# Altium footprint library LAN8700C-AEZG-TR.PcbLib: 3 footprints
Each footprint in its own frame and in the unit in brackets; x right, y up, seen from the top. Pads: shape width x height; smd on the part's side, far side on the other; paste and mask are expansions set on the pad; w line width, h text height; cw(c..) or ccw(c..) is an arc to the next point about the centre after c.
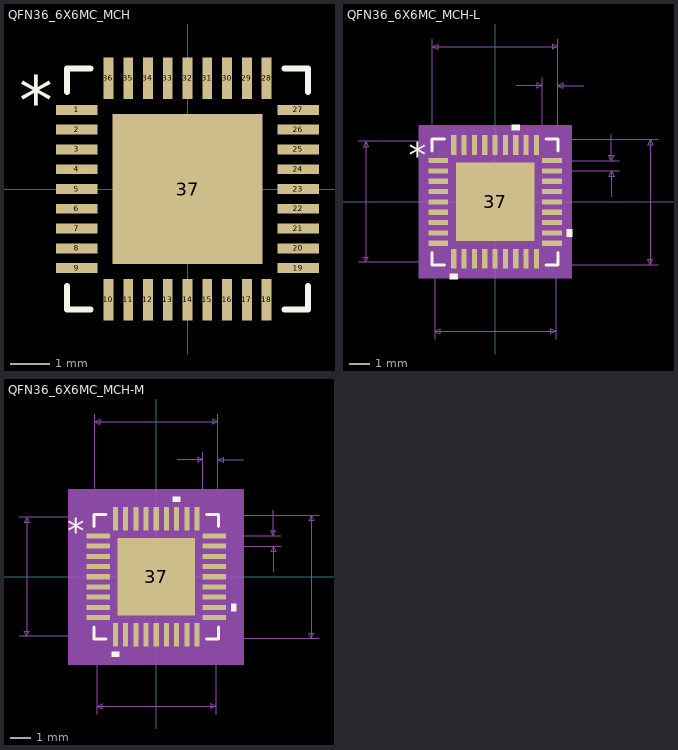
[diagram p0: the footprints below, top view; thin cyan lines are the x and y axes]

## QFN36_6X6MC_MCH [mil]
pads (37):
  rect 42x10 smd paste+0 mask+0: 1(-112,80) 2(-112,60) 3(-112,40) 4(-112,20) 5(-112,0) 6(-112,-20) 7(-112,-40) 8(-112,-60) 9(-112,-80) 19(112,-80) 20(112,-60) 21(112,-40) 22(112,-20) 23(112,0) 24(112,20) 25(112,40) 26(112,60) 27(112,80)
  rect 10x42 smd paste+0 mask+0: 10(-80,-112) 11(-60,-112) 12(-40,-112) 13(-20,-112) 14(0,-112) 15(20,-112) 16(40,-112) 17(60,-112) 18(80,-112) 28(80,112) 29(60,112) 30(40,112) 31(20,112) 32(0,112) 33(-20,112) 34(-40,112) 35(-60,112) 36(-80,112)
  rect 152x152 smd paste-75.5 mask-75.5: 37(0,0)
Top Overlay:
  lines w6: -122,-98.1 -122,-122 -98.1,-122 ; -122,98.1 -122,122 -98.1,122 ; 98.1,-122 122,-122 122,-98.1 ; 98.1,122 122,122 122,98.1
  text "*" at -170.5,65 h50
Top Paste:
  drawing of 25 lines, arcs and shapes, not listed
Top Solder:
  region: 54.37,-78.5 54.37,78.5 78.5,78.5 78.5,-78.5
  region: 38.63,-78.5 38.63,78.5 23.37,78.5 23.37,-78.5
  region: 7.63,-78.5 7.63,78.5 -7.63,78.5 -7.63,-78.5
  region: -23.37,-78.5 -23.37,78.5 -38.63,78.5 -38.63,-78.5
  region: -78.5,-78.5 -78.5,78.5 -54.37,78.5 -54.37,-78.5
  region: -78.5,-78.5 -78.5,-54.37 78.5,-54.37 78.5,-78.5
  region: -78.5,-38.63 -78.5,-23.37 78.5,-23.37 78.5,-38.63
  region: -78.5,-7.63 -78.5,7.63 78.5,7.63 78.5,-7.63
  region: -78.5,23.37 -78.5,38.63 78.5,38.63 78.5,23.37
  region: -78.5,54.37 -78.5,78.5 78.5,78.5 78.5,54.37

## QFN36_6X6MC_MCH-L [mil]
pads (37):
  rect 38x10 smd paste+0 mask+0: 1(-110,80) 2(-110,60) 3(-110,40) 4(-110,20) 5(-110,0) 6(-110,-20) 7(-110,-40) 8(-110,-60) 9(-110,-80) 19(110,-80) 20(110,-60) 21(110,-40) 22(110,-20) 23(110,0) 24(110,20) 25(110,40) 26(110,60) 27(110,80)
  rect 10x38 smd paste+0 mask+0: 10(-80,-110) 11(-60,-110) 12(-40,-110) 13(-20,-110) 14(0,-110) 15(20,-110) 16(40,-110) 17(60,-110) 18(80,-110) 28(80,110) 29(60,110) 30(40,110) 31(20,110) 32(0,110) 33(-20,110) 34(-40,110) 35(-60,110) 36(-80,110)
  rect 152x152 smd paste-75.5 mask-75.5: 37(0,0)
Top Overlay:
  region: -72.5,-139 -87.5,-139 -87.5,-149 -72.5,-149
  region: 139,-52.5 149,-52.5 149,-67.5 139,-67.5
  region: 47.5,139 32.5,139 32.5,149 47.5,149
  lines w6: -122,-98.1 -122,-122 -98.1,-122 ; -122,98.1 -122,122 -98.1,122 ; 98.1,-122 122,-122 122,-98.1 ; 98.1,122 122,122 122,98.1
  text "*" at -166.5,65 h50
Top Paste:
  drawing of 25 lines, arcs and shapes, not listed
Top Solder:
  region: -78.5,54.37 -78.5,78.5 78.5,78.5 78.5,54.37
  region: -78.5,23.37 -78.5,38.63 78.5,38.63 78.5,23.37
  region: -78.5,-7.63 -78.5,7.63 78.5,7.63 78.5,-7.63
  region: -78.5,-38.63 -78.5,-23.37 78.5,-23.37 78.5,-38.63
  region: -78.5,-78.5 -78.5,-54.37 78.5,-54.37 78.5,-78.5
  region: -78.5,-78.5 -78.5,78.5 -54.37,78.5 -54.37,-78.5
  region: -23.37,-78.5 -23.37,78.5 -38.63,78.5 -38.63,-78.5
  region: 7.63,-78.5 7.63,78.5 -7.63,78.5 -7.63,-78.5
  region: 38.63,-78.5 38.63,78.5 23.37,78.5 23.37,-78.5
  region: 54.37,-78.5 54.37,78.5 78.5,78.5 78.5,-78.5
Mechanical 5:
  region: 148,-148 -148,-148 -148,148 148,148
Mechanical 7:
  lines w1: -265,-117 117,-117 ; -265,117 117,117 117,-265 ; -121,80 -121,315 ; -117,-265 -117,117 ; 41,225 91,225 ; 80,-121 315,-121 ; 80,121 315,121 ; 91,80 91,240 ; 110,60 240,60 ; 110,80 240,80 ; 121,240 121,80 121,315 ; 171,225 121,225 ; 225,10 225,60 ; 225,130 225,80 ; -250,-117 -250,117 ; -250,-117 -255,-107 -245,-107 -250,-117 ; -250,117 -255,107 -245,107 -250,117 ; -121,300 121,300 ; -121,300 -111,305 -111,295 -121,300 ; -117,-250 117,-250 ; -117,-250 -107,-245 -107,-255 -117,-250 ; 91,225 81,230 81,220 91,225 ; 117,-250 107,-245 107,-255 117,-250 ; 121,225 131,230 131,220 121,225 ; 121,300 111,305 111,295 121,300 ; 225,60 220,50 230,50 225,60 ; 225,80 220,90 230,90 225,80 ; 300,-121 300,121 ; 300,-121 295,-111 305,-111 300,-121 ; 300,121 295,111 305,111 300,121
  text "Default Padstyle: RX10Y38D0T" at -350,-439 h50
  text "Heat Tab Padstyle: RX152Y152D0T" at -387.5,-499 h50
  text "Via Padstyle: EX40Y40D20P" at -312.5,-559 h50
  text "Alt 1 Padstyle: OX60Y90D30P" at -337.5,-619 h50
  text "Alt 2 Padstyle: OX90Y60D30P" at -337.5,-679 h50
  text "0.02in/0.508mm" at 245,57.5 h25
  text "0.03in/0.762mm" at 18.5,245 h25
  text "0.242in/6.147mm" at -93.75,320 h25
  text "0.242in/6.147mm" at 320,-12.5 h25
  text "0.234in/5.944mm" at -457.5,-12.5 h25
  text "0.234in/5.944mm" at -93.75,-295 h25
Mechanical 13:
  drawing of 153 lines, arcs and shapes, not listed
  text "*" at -103.5,65 h50
Mechanical 15:
  region: -89,-121 -121,-121 -121,-89 -133,-89 -133,89 -121,89 -121,121 -89,121 -89,133 89,133 89,121 121,121 121,89 133,89 133,-89 121,-89 121,-121 89,-121 89,-133 -89,-133
  lines w6: -133,-89 -121,-89 -121,-121 -89,-121 -89,-133 89,-133 89,-121 121,-121 121,-89 133,-89 133,89 121,89 121,121 89,121 89,133 -89,133 -89,121 -121,121 -121,89 -133,89 -133,-89
Mechanical 16:
  circle w10: c-46.5,-46.5 r15
  circle w10: c-46.5,-15.5 r15
  circle w10: c-46.5,15.5 r15
  circle w10: c-46.5,46.5 r15
  circle w10: c-15.5,-46.5 r15
  circle w10: c-15.5,-15.5 r15
  circle w10: c-15.5,15.5 r15
  circle w10: c-15.5,46.5 r15
  circle w10: c15.5,-46.5 r15
  circle w10: c15.5,-15.5 r15
  circle w10: c15.5,15.5 r15
  circle w10: c15.5,46.5 r15
  circle w10: c46.5,-46.5 r15
  circle w10: c46.5,-15.5 r15
  circle w10: c46.5,15.5 r15
  circle w10: c46.5,46.5 r15
3D body: height 10, standoff 0, extent 0,0 10,10

## QFN36_6X6MC_MCH-M [mil]
pads (37):
  rect 46x10 smd paste+0 mask+0: 1(-114,80) 2(-114,60) 3(-114,40) 4(-114,20) 5(-114,0) 6(-114,-20) 7(-114,-40) 8(-114,-60) 9(-114,-80) 19(114,-80) 20(114,-60) 21(114,-40) 22(114,-20) 23(114,0) 24(114,20) 25(114,40) 26(114,60) 27(114,80)
  rect 10x46 smd paste+0 mask+0: 10(-80,-114) 11(-60,-114) 12(-40,-114) 13(-20,-114) 14(0,-114) 15(20,-114) 16(40,-114) 17(60,-114) 18(80,-114) 28(80,114) 29(60,114) 30(40,114) 31(20,114) 32(0,114) 33(-20,114) 34(-40,114) 35(-60,114) 36(-80,114)
  rect 152x152 smd paste-75.5 mask-75.5: 37(0,0)
Top Overlay:
  region: -72.5,-147 -87.5,-147 -87.5,-157 -72.5,-157
  region: 147,-52.5 157,-52.5 157,-67.5 147,-67.5
  region: 47.5,147 32.5,147 32.5,157 47.5,157
  lines w6: -122,-98.1 -122,-122 -98.1,-122 ; -122,98.1 -122,122 -98.1,122 ; 98.1,-122 122,-122 122,-98.1 ; 98.1,122 122,122 122,98.1
  text "*" at -174.5,65 h50
Top Paste:
  drawing of 25 lines, arcs and shapes, not listed
Top Solder:
  region: -78.5,54.37 -78.5,78.5 78.5,78.5 78.5,54.37
  region: -78.5,23.37 -78.5,38.63 78.5,38.63 78.5,23.37
  region: -78.5,-7.63 -78.5,7.63 78.5,7.63 78.5,-7.63
  region: -78.5,-38.63 -78.5,-23.37 78.5,-23.37 78.5,-38.63
  region: -78.5,-78.5 -78.5,-54.37 78.5,-54.37 78.5,-78.5
  region: -78.5,-78.5 -78.5,78.5 -54.37,78.5 -54.37,-78.5
  region: -23.37,-78.5 -23.37,78.5 -38.63,78.5 -38.63,-78.5
  region: 7.63,-78.5 7.63,78.5 -7.63,78.5 -7.63,-78.5
  region: 38.63,-78.5 38.63,78.5 23.37,78.5 23.37,-78.5
  region: 54.37,-78.5 54.37,78.5 78.5,78.5 78.5,-78.5
Mechanical 5:
  region: 172,-172 -172,-172 -172,172 172,172
Mechanical 7:
  lines w1: -269,-117 117,-117 ; -269,117 117,117 117,-269 ; -121,80 -121,319 ; -117,-269 -117,117 ; 41,229 91,229 ; 80,-121 319,-121 ; 80,121 319,121 ; 91,80 91,244 ; 114,60 244,60 ; 114,80 244,80 ; 121,244 121,80 121,319 ; 171,229 121,229 ; 229,10 229,60 ; 229,130 229,80 ; -254,-117 -254,117 ; -254,-117 -259,-107 -249,-107 -254,-117 ; -254,117 -259,107 -249,107 -254,117 ; -121,304 121,304 ; -121,304 -111,309 -111,299 -121,304 ; -117,-254 117,-254 ; -117,-254 -107,-249 -107,-259 -117,-254 ; 91,229 81,234 81,224 91,229 ; 117,-254 107,-249 107,-259 117,-254 ; 121,229 131,234 131,224 121,229 ; 121,304 111,309 111,299 121,304 ; 229,60 224,50 234,50 229,60 ; 229,80 224,90 234,90 229,80 ; 304,-121 304,121 ; 304,-121 299,-111 309,-111 304,-121 ; 304,121 299,111 309,111 304,121
  text "Default Padstyle: RX10Y46D0T" at -350,-447 h50
  text "Heat Tab Padstyle: RX152Y152D0T" at -387.5,-507 h50
  text "Via Padstyle: EX40Y40D20P" at -312.5,-567 h50
  text "Alt 1 Padstyle: OX60Y90D30P" at -337.5,-627 h50
  text "Alt 2 Padstyle: OX90Y60D30P" at -337.5,-687 h50
  text "0.02in/0.508mm" at 249,57.5 h25
  text "0.03in/0.762mm" at 18.5,249 h25
  text "0.242in/6.147mm" at -93.75,324 h25
  text "0.242in/6.147mm" at 324,-12.5 h25
  text "0.234in/5.944mm" at -461.5,-12.5 h25
  text "0.234in/5.944mm" at -93.75,-299 h25
Mechanical 13:
  drawing of 153 lines, arcs and shapes, not listed
  text "*" at -103.5,65 h50
Mechanical 15:
  region: -105,-137 -137,-137 -137,-105 -157,-105 -157,105 -137,105 -137,137 -105,137 -105,157 105,157 105,137 137,137 137,105 157,105 157,-105 137,-105 137,-137 105,-137 105,-157 -105,-157
  lines w6: -157,-105 -137,-105 -137,-137 -105,-137 -105,-157 105,-157 105,-137 137,-137 137,-105 157,-105 157,105 137,105 137,137 105,137 105,157 -105,157 -105,137 -137,137 -137,105 -157,105 -157,-105
Mechanical 16:
  circle w10: c-46.5,-46.5 r15
  circle w10: c-46.5,-15.5 r15
  circle w10: c-46.5,15.5 r15
  circle w10: c-46.5,46.5 r15
  circle w10: c-15.5,-46.5 r15
  circle w10: c-15.5,-15.5 r15
  circle w10: c-15.5,15.5 r15
  circle w10: c-15.5,46.5 r15
  circle w10: c15.5,-46.5 r15
  circle w10: c15.5,-15.5 r15
  circle w10: c15.5,15.5 r15
  circle w10: c15.5,46.5 r15
  circle w10: c46.5,-46.5 r15
  circle w10: c46.5,-15.5 r15
  circle w10: c46.5,15.5 r15
  circle w10: c46.5,46.5 r15
3D body: height 10, standoff 0, extent 0,0 10,10